# Altium footprint library GSM_PCBLIB.PcbLib: 1 footprints
Each footprint in its own frame and in the unit in brackets; x right, y up, seen from the top. Pads: shape width x height; smd on the part's side, far side on the other; paste and mask are expansions set on the pad; w line width, h text height; cw(c..) or ccw(c..) is an arc to the next point about the centre after c.
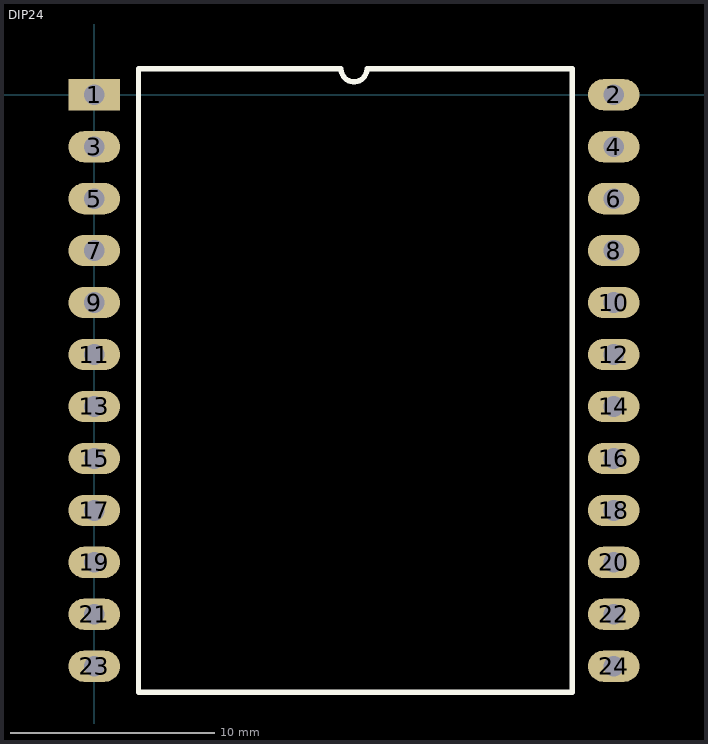
[diagram p0: the footprint, top view; thin cyan lines are the x and y axes]

## DIP24 [mil]
pads (24):
  rect 100x60 hole 40: 1(0,0)
  oval 100x60 hole 40: 2(1000,0) 3(0,-100) 4(1000,-100) 5(0,-200) 6(1000,-200) 7(0,-300) 8(1000,-300) 9(0,-400) 10(1000,-400) 11(0,-500) 12(1000,-500) 13(0,-600) 14(1000,-600) 15(0,-700) 16(1000,-700) 17(0,-800) 18(1000,-800) 19(0,-900) 20(1000,-900) 21(0,-1000) 22(1000,-1000) 23(0,-1100) 24(1000,-1100)
Top Overlay:
  lines w10: 85,-1150 920,-1150 920,50 525,50 cw(c500,50) 475,50 85,50 85,-1150